# EAGLE library part LTM4607IVPBF (library LTM4607IV)
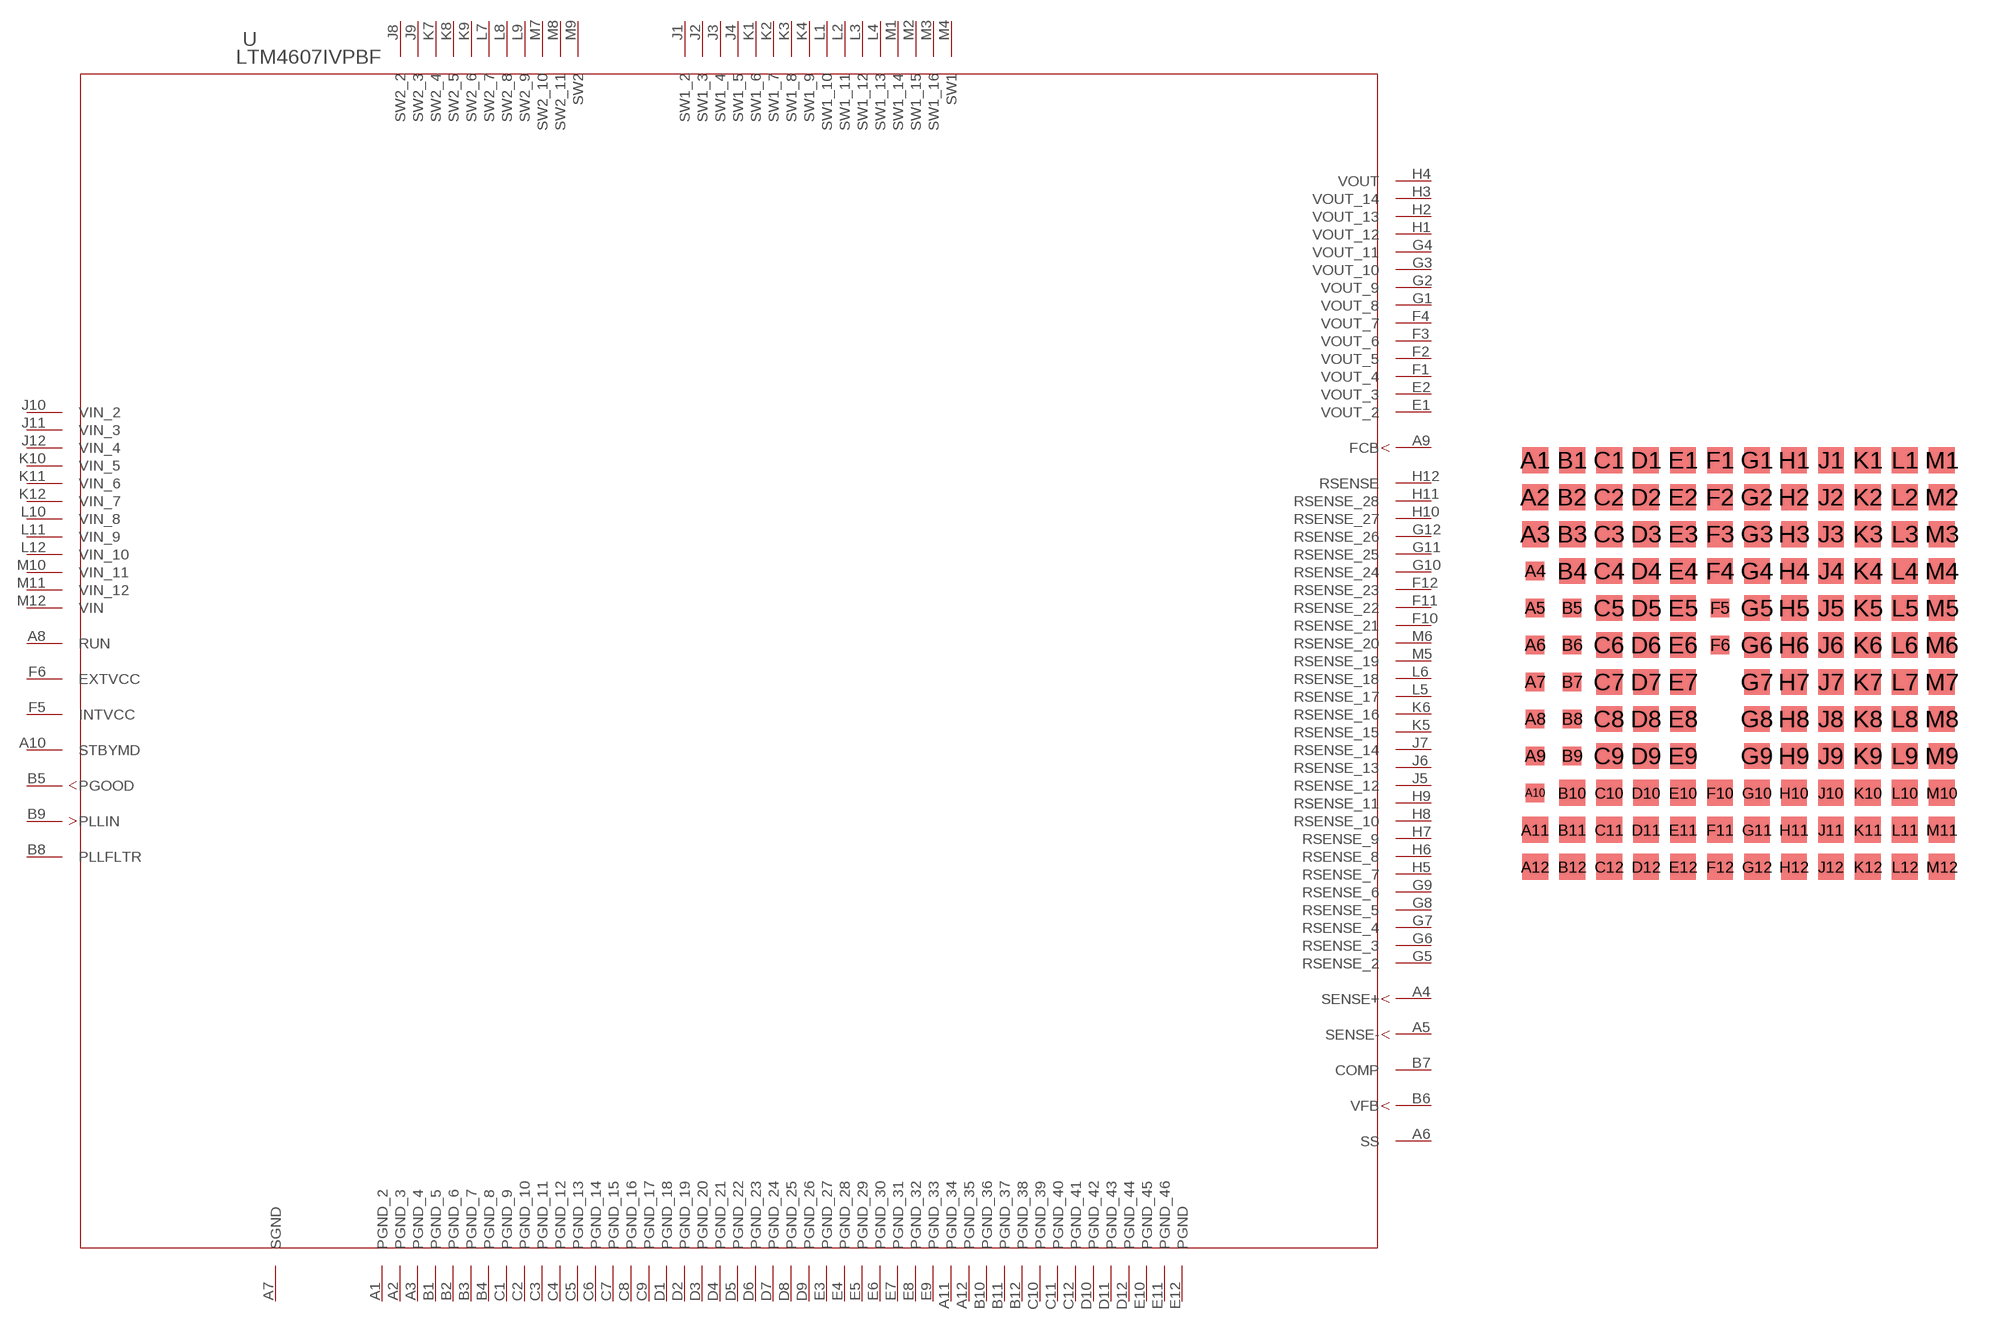
[diagram p0: symbol with the pads of LGA-141; footprint LGA-141]

Designator prefix -

## LTM4607IVPBF  [LGA-141]
A1  PGND_2  pwr
A2  PGND_3  pwr
A3  PGND_4  pwr
A4  SENSE+  in
A5  SENSE-  in
A6  SS  pas
A7  SGND  pwr
A8  RUN  pas
A9  FCB  in
A10  STBYMD  pas
A11  PGND_34  pwr
A12  PGND_35  pwr
B1  PGND_5  pwr
B2  PGND_6  pwr
B3  PGND_7  pwr
B4  PGND_8  pwr
B5  PGOOD  out
B6  VFB  in
B7  COMP  pas
B8  PLLFLTR  pas
B9  PLLIN  in
B10  PGND_36  pwr
B11  PGND_37  pwr
B12  PGND_38  pwr
C1  PGND_9  pwr
C2  PGND_10  pwr
C3  PGND_11  pwr
C4  PGND_12  pwr
C5  PGND_13  pwr
C6  PGND_14  pwr
C7  PGND_15  pwr
C8  PGND_16  pwr
C9  PGND_17  pwr
C10  PGND_39  pwr
C11  PGND_40  pwr
C12  PGND_41  pwr
D1  PGND_18  pwr
D2  PGND_19  pwr
D3  PGND_20  pwr
D4  PGND_21  pwr
D5  PGND_22  pwr
D6  PGND_23  pwr
D7  PGND_24  pwr
D8  PGND_25  pwr
D9  PGND_26  pwr
D10  PGND_42  pwr
D11  PGND_43  pwr
D12  PGND_44  pwr
E1  VOUT_2  pwr
E2  VOUT_3  pwr
E3  PGND_27  pwr
E4  PGND_28  pwr
E5  PGND_29  pwr
E6  PGND_30  pwr
E7  PGND_31  pwr
E8  PGND_32  pwr
E9  PGND_33  pwr
E10  PGND_45  pwr
E11  PGND_46  pwr
E12  PGND  pwr
F1  VOUT_4  pwr
F2  VOUT_5  pwr
F3  VOUT_6  pwr
F4  VOUT_7  pwr
F5  INTVCC  pwr
F6  EXTVCC  pwr
F10  RSENSE_21  pas
F11  RSENSE_22  pas
F12  RSENSE_23  pas
G1  VOUT_8  pwr
G2  VOUT_9  pwr
G3  VOUT_10  pwr
G4  VOUT_11  pwr
G5  RSENSE_2  pas
G6  RSENSE_3  pas
G7  RSENSE_4  pas
G8  RSENSE_5  pas
G9  RSENSE_6  pas
G10  RSENSE_24  pas
G11  RSENSE_25  pas
G12  RSENSE_26  pas
H1  VOUT_12  pwr
H2  VOUT_13  pwr
H3  VOUT_14  pwr
H4  VOUT  pwr
H5  RSENSE_7  pas
H6  RSENSE_8  pas
H7  RSENSE_9  pas
H8  RSENSE_10  pas
H9  RSENSE_11  pas
H10  RSENSE_27  pas
H11  RSENSE_28  pas
H12  RSENSE  pas
J1  SW1_2  pas
J2  SW1_3  pas
J3  SW1_4  pas
J4  SW1_5  pas
J5  RSENSE_12  pas
J6  RSENSE_13  pas
J7  RSENSE_14  pas
J8  SW2_2  pas
J9  SW2_3  pas
J10  VIN_2  pwr
J11  VIN_3  pwr
J12  VIN_4  pwr
K1  SW1_6  pas
K2  SW1_7  pas
K3  SW1_8  pas
K4  SW1_9  pas
K5  RSENSE_15  pas
K6  RSENSE_16  pas
K7  SW2_4  pas
K8  SW2_5  pas
K9  SW2_6  pas
K10  VIN_5  pwr
K11  VIN_6  pwr
K12  VIN_7  pwr
L1  SW1_10  pas
L2  SW1_11  pas
L3  SW1_12  pas
L4  SW1_13  pas
L5  RSENSE_17  pas
L6  RSENSE_18  pas
L7  SW2_7  pas
L8  SW2_8  pas
L9  SW2_9  pas
L10  VIN_8  pwr
L11  VIN_9  pwr
L12  VIN_10  pwr
M1  SW1_14  pas
M2  SW1_15  pas
M3  SW1_16  pas
M4  SW1  pas
M5  RSENSE_19  pas
M6  RSENSE_20  pas
M7  SW2_10  pas
M8  SW2_11  pas
M9  SW2  pas
M10  VIN_11  pwr
M11  VIN_12  pwr
M12  VIN  pwr

## Footprint LGA-141 (pad centres in mm)
smd 0.889 x 0.889: A1 -6.985,6.985; A2 -6.985,5.715; A3 -6.985,4.445; A11 -6.985,-5.715; A12 -6.985,-6.985; B1 -5.715,6.985; B2 -5.715,5.715; B3 -5.715,4.445; B4 -5.715,3.175; B10 -5.715,-4.445; B11 -5.715,-5.715; B12 -5.715,-6.985; C1 -4.445,6.985; C2 -4.445,5.715; C3 -4.445,4.445; C4 -4.445,3.175; C5 -4.445,1.905; C6 -4.445,0.635; C7 -4.445,-0.635; C8 -4.445,-1.905; C9 -4.445,-3.175; C10 -4.445,-4.445; C11 -4.445,-5.715; C12 -4.445,-6.985; D1 -3.175,6.985; D2 -3.175,5.715; D3 -3.175,4.445; D4 -3.175,3.175; D5 -3.175,1.905; D6 -3.175,0.635; D7 -3.175,-0.635; D8 -3.175,-1.905; D9 -3.175,-3.175; D10 -3.175,-4.445; D11 -3.175,-5.715; D12 -3.175,-6.985; E1 -1.905,6.985; E2 -1.905,5.715; E3 -1.905,4.445; E4 -1.905,3.175; E5 -1.905,1.905; E6 -1.905,0.635; E7 -1.905,-0.635; E8 -1.905,-1.905; E9 -1.905,-3.175; E10 -1.905,-4.445; E11 -1.905,-5.715; E12 -1.905,-6.985; F1 -0.635,6.985; F2 -0.635,5.715; F3 -0.635,4.445; F4 -0.635,3.175; F10 -0.635,-4.445; F11 -0.635,-5.715; F12 -0.635,-6.985; G1 0.635,6.985; G2 0.635,5.715; G3 0.635,4.445; G4 0.635,3.175; G5 0.635,1.905; G6 0.635,0.635; G7 0.635,-0.635; G8 0.635,-1.905; G9 0.635,-3.175; G10 0.635,-4.445; G11 0.635,-5.715; G12 0.635,-6.985; H1 1.905,6.985; H2 1.905,5.715; H3 1.905,4.445; H4 1.905,3.175; H5 1.905,1.905; H6 1.905,0.635; H7 1.905,-0.635; H8 1.905,-1.905; H9 1.905,-3.175; H10 1.905,-4.445; H11 1.905,-5.715; H12 1.905,-6.985; J1 3.175,6.985; J2 3.175,5.715; J3 3.175,4.445; J4 3.175,3.175; J5 3.175,1.905; J6 3.175,0.635; J7 3.175,-0.635; J8 3.175,-1.905; J9 3.175,-3.175; J10 3.175,-4.445; J11 3.175,-5.715; J12 3.175,-6.985; K1 4.445,6.985; K2 4.445,5.715; K3 4.445,4.445; K4 4.445,3.175; K5 4.445,1.905; K6 4.445,0.635; K7 4.445,-0.635; K8 4.445,-1.905; K9 4.445,-3.175; K10 4.445,-4.445; K11 4.445,-5.715; K12 4.445,-6.985; L1 5.715,6.985; L2 5.715,5.715; L3 5.715,4.445; L4 5.715,3.175; L5 5.715,1.905; L6 5.715,0.635; L7 5.715,-0.635; L8 5.715,-1.905; L9 5.715,-3.175; L10 5.715,-4.445; L11 5.715,-5.715; L12 5.715,-6.985; M1 6.985,6.985; M2 6.985,5.715; M3 6.985,4.445; M4 6.985,3.175; M5 6.985,1.905; M6 6.985,0.635; M7 6.985,-0.635; M8 6.985,-1.905; M9 6.985,-3.175; M10 6.985,-4.445; M11 6.985,-5.715; M12 6.985,-6.985
smd 0.635 x 0.635: A4 -6.985,3.175; A5 -6.985,1.905; A6 -6.985,0.635; A7 -6.985,-0.635; A8 -6.985,-1.905; A9 -6.985,-3.175; A10 -6.985,-4.445; B5 -5.715,1.905; B6 -5.715,0.635; B7 -5.715,-0.635; B8 -5.715,-1.905; B9 -5.715,-3.175; F5 -0.635,1.905; F6 -0.635,0.635